# Altium footprint library MAX31865AAP+.PcbLib: 1 footprints
Each footprint in its own frame and in the unit in brackets; x right, y up, seen from the top. Pads: shape width x height; smd on the part's side, far side on the other; paste and mask are expansions set on the pad; w line width, h text height; cw(c..) or ccw(c..) is an arc to the next point about the centre after c.
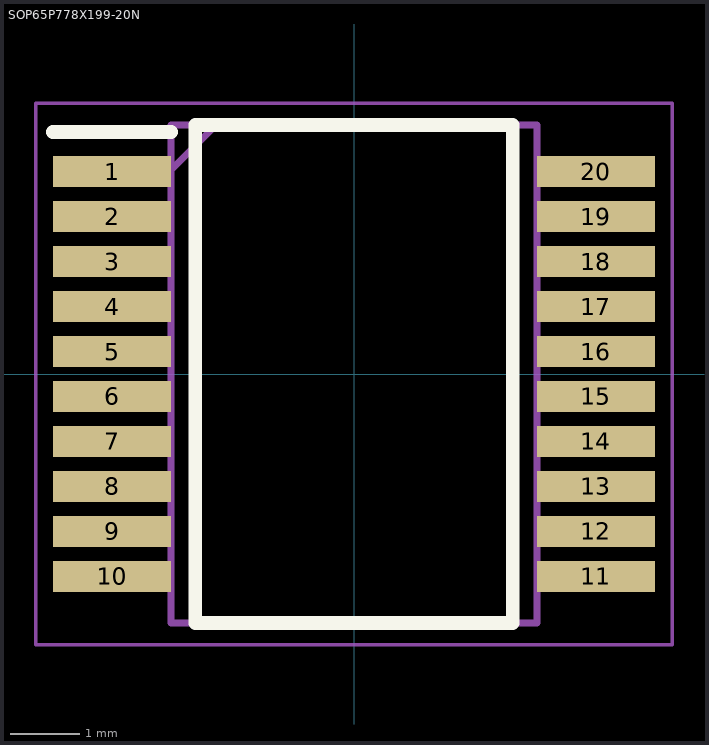
[diagram p0: the footprint, top view; thin cyan lines are the x and y axes]

## SOP65P778X199-20N [mm]
pads (20):
  rect 1.705x0.45 smd: 1(-3.498,2.925) 2(-3.498,2.275) 3(-3.498,1.625) 4(-3.498,0.975) 5(-3.498,0.325) 6(-3.498,-0.325) 7(-3.498,-0.975) 8(-3.498,-1.625) 9(-3.498,-2.275) 10(-3.498,-2.925) 11(3.498,-2.925) 12(3.498,-2.275) 13(3.498,-1.625) 14(3.498,-0.975) 15(3.498,-0.325) 16(3.498,0.325) 17(3.498,0.975) 18(3.498,1.625) 19(3.498,2.275) 20(3.498,2.925)
Top Overlay:
  lines w0.2: -4.35,3.5 -2.645,3.5 ; -2.295,-3.6 -2.295,3.6 2.295,3.6 2.295,-3.6 -2.295,-3.6
Mechanical 13:
  lines w0.1: -2.645,2.95 -1.995,3.6 ; -2.645,-3.6 -2.645,3.6 2.645,3.6 2.645,-3.6 -2.645,-3.6
Mechanical 15:
  lines w0.05: -4.6,-3.915 -4.6,3.915 4.6,3.915 4.6,-3.915 -4.6,-3.915
3D body "MAX31865AAP+.stp": height 1.99, standoff 0, extent -3.888,-3.6 3.888,3.6